# EAGLE library part BN-73-202 (library amidon)
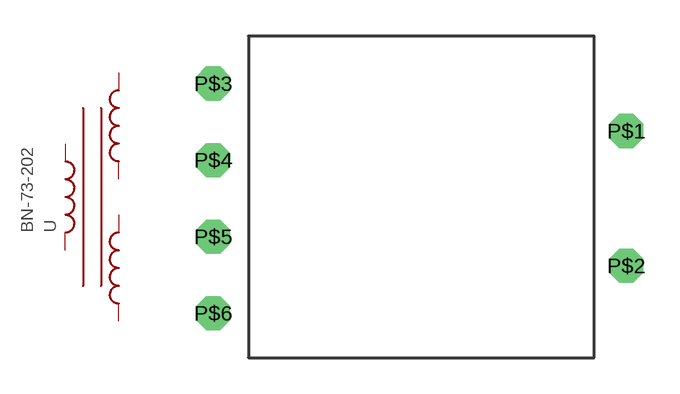
[diagram p0: symbol with the pads of BN-73-202; footprint BN-73-202]

Designator prefix -

## BN-73-202  [BN-73-202]
P$1  1  pas
P$2  2  pas
P$3  3  pas
P$4  4  pas
P$5  5  pas
P$6  6  pas

## Footprint BN-73-202 (pad centres in mm)
drill 0.914 octagon: P$1 8.572,2.794; P$2 8.572,-2.794; P$3 -8.572,4.763; P$4 -8.572,1.587; P$5 -8.572,-1.587; P$6 -8.572,-4.763